# Altium schematic symbol library SamacSys.SchLib: 7 symbols
Pins are listed as number, name and electrical type; pins without a type are passive.

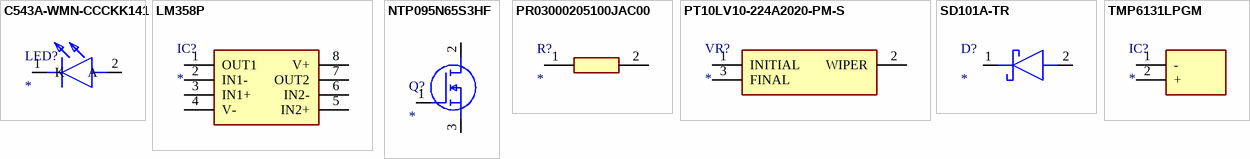
[diagram p0: symbols C543A-WMN-CCCKK141 to TMP6131LPGM]

## C543A-WMN-CCCKK141
designator LED?
LED; Manufacturer_Name: Cree; Manufacturer_Part_Number: C543A-WMN-CCCKK141; Datasheet Link: https://componentsearchengine.com//C543A-WMN-CCCKK141.pdf; Height: 8.7mm; Mouser2 Part Number: 941-C543AWMNCCCKK141; Mouser2 Price/Stock: https://www.mouser.com/Search/Refine.aspx?Keyword=941-C543AWMNCCCKK141
footprint C543AWMNCCCKK141
pins: 1 K, 2 A

## LM358P
designator IC?
Integrated Circuit; Manufacturer_Name: Texas Instruments; Manufacturer_Part_Number: LM358P; Datasheet Link: http://www.ti.com/lit/ds/symlink/lm358a.pdf; Height: 5.08mm; Mouser2 Part Number: 595-LM358P; Mouser2 Price/Stock: https://www.mouser.com/Search/Refine.aspx?Keyword=595-LM358P
footprint DIP794W53P254L959H508Q8N
pins: 1 OUT1, 2 IN1-, 3 IN1+, 4 V-, 5 IN2+, 6 IN2-, 7 OUT2, 8 V+

## NTP095N65S3HF
designator Q?
MOSFET (N-Channel); Manufacturer_Name: ON Semiconductor; Manufacturer_Part_Number: NTP095N65S3HF; Datasheet Link: https://componentsearchengine.com//NTP095N65S3HF.pdf; Height: 4.7mm; Mouser2 Part Number: 863-NTP095N65S3HF; Mouser2 Price/Stock: https://www.mouser.com/Search/Refine.aspx?Keyword=863-NTP095N65S3HF
footprint TO254P470X1016X2019-3P
pins: 1 G, 2 D, 3 S

## PR03000205100JAC00
designator R?
Resistor; Manufacturer_Name: Vishay; Manufacturer_Part_Number: PR03000205100JAC00; Datasheet Link: http://www.vishay.com/docs/28729/pr010203.pdf
footprint RESAD3750W83L1670D520
pins: 1, 2

## PT10LV10-224A2020-PM-S
designator VR?
Variable Resistor; Manufacturer_Name: PIHER; Manufacturer_Part_Number: PT10LV10-224A2020-PM-S; Datasheet Link: https://componentsearchengine.com//PT10LV10-224A2020-PM-S.pdf; Height: 4.8mm; Mouser2 Part Number: 531-PT1LV1224A22PMS; Mouser2 Price/Stock: https://www.mouser.com/Search/Refine.aspx?Keyword=531-PT1LV1224A22PMS
footprint PT10LV10224A2020PMS
pins: 1 INITIAL, 2 WIPER, 3 FINAL

## SD101A-TR
designator D?
Schottky Diode; Manufacturer_Name: Vishay; Manufacturer_Part_Number: SD101A-TR; Datasheet Link: https://componentsearchengine.com/Datasheets/5/SD101A-TR.pdf
footprint DIOAD950W60L350D150
pins: 1 K, 2 A

## TMP6131LPGM
designator IC?
Integrated Circuit; Manufacturer_Name: Texas Instruments; Manufacturer_Part_Number: TMP6131LPGM; Datasheet Link: https://www.ti.com/lit/gpn/TMP61; Height: 5.3mm
footprint LMT01QLPGQ1
pins: 1 -, 2 +